# Altium footprint library footprints.PcbLib: 1 footprints
Each footprint in its own frame and in the unit in brackets; x right, y up, seen from the top. Pads: shape width x height; smd on the part's side, far side on the other; paste and mask are expansions set on the pad; w line width, h text height; cw(c..) or ccw(c..) is an arc to the next point about the centre after c.
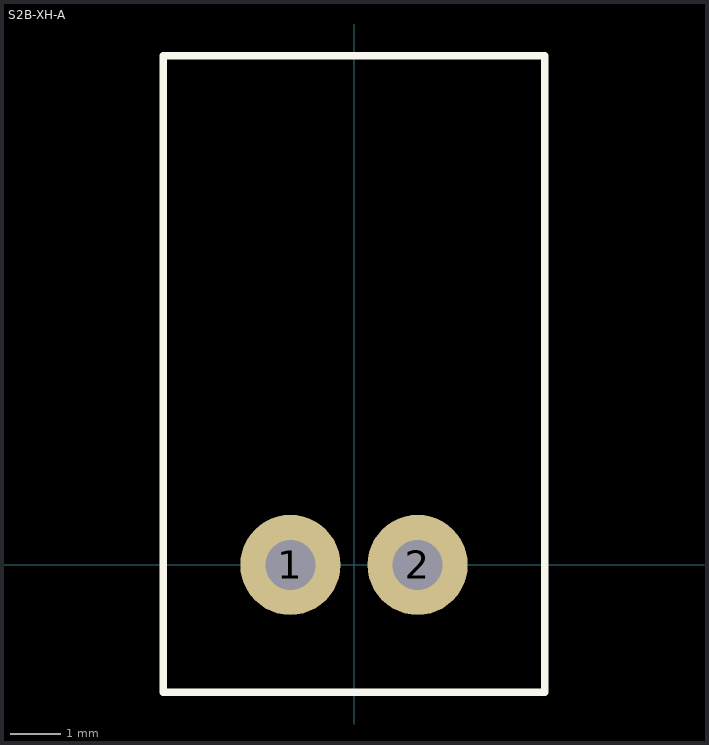
[diagram p0: the footprint, top view; thin cyan lines are the x and y axes]

## S2B-XH-A [mm]
height 6
pads (2):
  round 2 hole 1: 1(-1.27,0) 2(1.27,0)
Top Overlay:
  lines w0.15: -3.81,-2.54 -3.81,10.16 3.81,10.16 3.81,-2.54 -3.81,-2.54
3D body "S2B-XH-A.STEP": height 5.95, standoff -3.4, extent -3.7,-2.296 3.7,9.204